# EAGLE library part HDR_1X09 (library GPLIB_CONN)
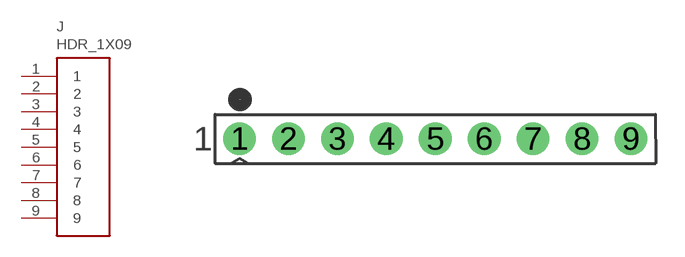
[diagram p8: symbol with the pads of HDR_1X09_2.54MM_TH_ST; footprint HDR_1X09_2.54MM_TH_ST]

Designator prefix J

## HDR_1X09_2.54MM_TH_ST  [HDR_1X09_2.54MM_TH_ST]
1  1  pas
2  2  pas
3  3  pas
4  4  pas
5  5  pas
6  6  pas
7  7  pas
8  8  pas
9  9  pas

## Footprint HDR_1X09_2.54MM_TH_ST (pad centres in mm)
drill 1.1 pad 1.7: 1 -10.16,0; 2 -7.62,0; 3 -5.08,0; 4 -2.54,0; 5 0,0; 6 2.54,0; 7 5.08,0; 8 7.62,0; 9 10.16,0